# EAGLE library part CD4051 (library LARS_409_MC)
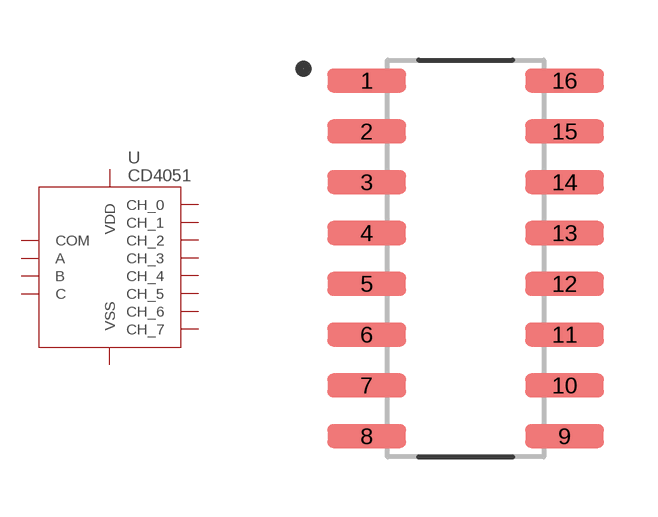
[diagram p43: symbol with the pads of SOIC-16; footprint SOIC-16]

Designator prefix U

## CD4051  [SOIC-16]
1  CH_4
2  CH_6
3  COM
4  CH_7
5  CH_5
6  VSS
7  VSS
8  VSS
9  C
10  B
11  A
12  CH_3
13  CH_0
14  CH_1
15  CH_2
16  VDD

## Footprint SOIC-16 (pad centres in mm)
16-SOIC, 1.27 mm pitch, 6.00 mm span, 9.90 X 3.90 X 1.75 mm body 16-pin SOIC package with 1.27 mm pitch, 6.00 mm span with body size 9.90 X 3.90 X 1.75 mm
smd 1.97 x 0.6: 1 -2.475,4.445; 2 -2.475,3.175; 3 -2.475,1.905; 4 -2.475,0.635; 5 -2.475,-0.635; 6 -2.475,-1.905; 7 -2.475,-3.175; 8 -2.475,-4.445; 9 2.475,-4.445; 10 2.475,-3.175; 11 2.475,-1.905; 12 2.475,-0.635; 13 2.475,0.635; 14 2.475,1.905; 15 2.475,3.175; 16 2.475,4.445